# Altium footprint library MPPT_Charger.PcbLib: 34 footprints (part 1 of 3)
Each footprint in its own frame and in the unit in brackets; x right, y up, seen from the top. Pads: shape width x height; smd on the part's side, far side on the other; paste and mask are expansions set on the pad; w line width, h text height; cw(c..) or ccw(c..) is an arc to the next point about the centre after c.
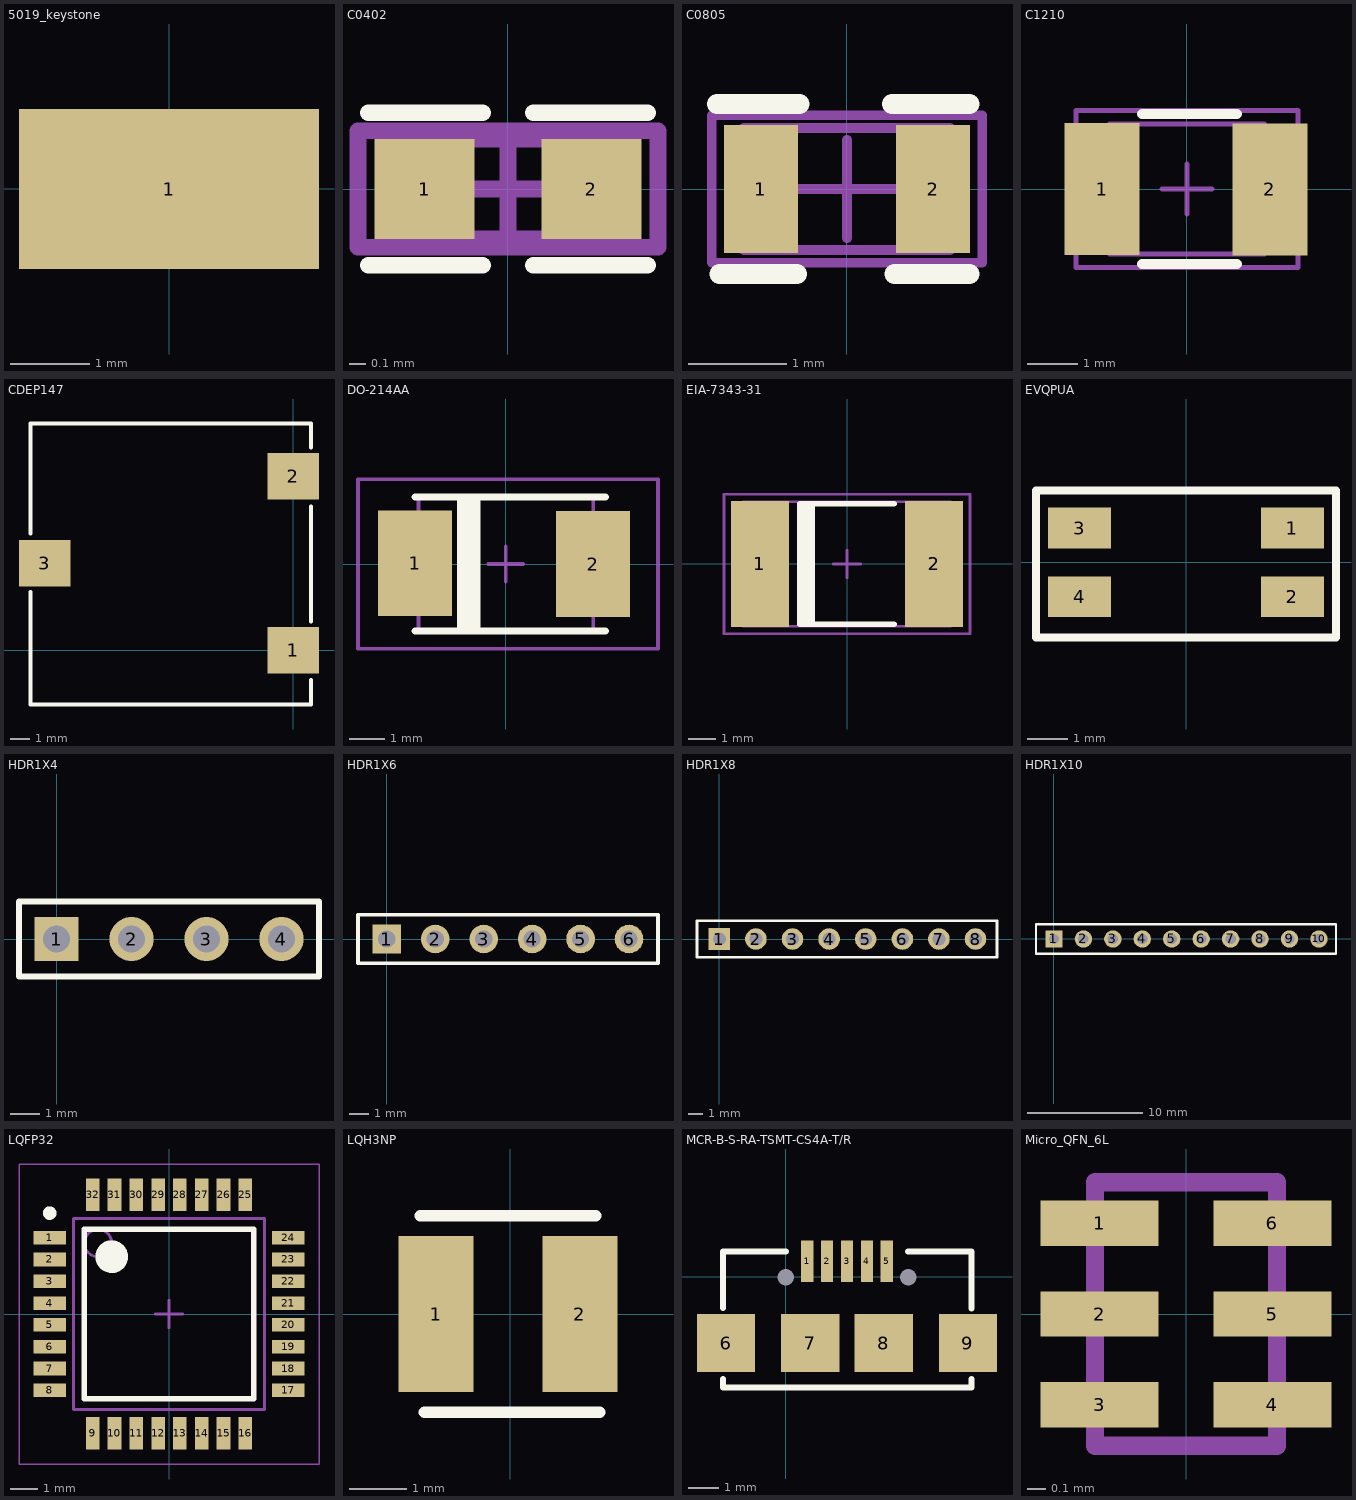
[diagram p0: the footprints below, top view; thin cyan lines are the x and y axes]

## 5019_keystone [mm] "Keystone Test Point 5019"
height 2.3
pads (1):
  rect 3.8x2.03 smd: 1(0,0)
3D body "User Library-User Library-Keystone_5019.step": height 2.29, standoff 0.01, extent -1.905,-1.015 1.905,1.015

## C0402 [mm] "Chip Capacitor, 2-Leads, Body 1,0x0,5mm, IPC High Density"
height 0.6
pads (2):
  rect 0.6x0.6 smd: 1(-0.5,0) 2(0.5,0)
Top Overlay:
  lines w0.1: -0.838,-0.457 -0.152,-0.457 ; -0.838,0.457 -0.152,0.457 ; 0.152,-0.457 0.838,-0.457 ; 0.152,0.457 0.838,0.457
Mechanical 13:
  lines w0.1: -0.55,-0.3 0.55,-0.3 0.55,0.3 -0.55,0.3 -0.55,-0.3
Mechanical 15:
  lines w0.1: -0.3,0 0.3,0 ; 0,-0.3 0,0.3 ; -0.9,-0.35 0.9,-0.35 0.9,0.35 -0.9,0.35 -0.9,-0.35
3D body "SW3dPS-0402 SMD Capacitor.STEP": height 0.2, standoff 0, extent -0.5,-0.3 0.5,0.3

## C0805 [mm] "Chip Capacitor, 2-Leads, Body 2,0x1,3mm, IPC High Density"
height 1
pads (2):
  rect 0.75x1.3 smd: 1(-0.875,0) 2(0.875,0)
Top Overlay:
  lines w0.2: -1.321,0.864 -0.483,0.864 ; -1.295,-0.864 -0.508,-0.864 ; 0.457,0.864 1.245,0.864 ; 0.483,-0.864 1.245,-0.864
Mechanical 13:
  lines w0.1: -1.05,-0.62 -1.05,0.62 1.05,0.62 1.05,-0.62 -1.05,-0.62
Mechanical 15:
  lines w0.1: -0.5,0 0.5,0 ; 0,-0.5 0,0.5 ; -1.375,-0.75 -1.375,0.75 1.375,0.75 1.375,-0.75 -1.375,-0.75
3D body "SW3dPS-0805 SMD Capacitor.STEP": height 0.78, standoff 0, extent -1.025,-0.691 0.975,0.559

## C1210 [mm] "Chip Capacitor, 2-Leads, Body 3.0x2.6mm, IPC Medium Density"
height 2.3
pads (2):
  rect 1.5x2.65 smd: 1(-1.7,0) 2(1.66,-0.01)
Top Overlay:
  lines w0.2: -0.9,-1.5 1,-1.5 ; -0.9,1.5 1,1.5
Mechanical 13:
  lines w0.1: -1.55,-1.3 1.55,-1.3 1.55,1.3 -1.55,1.3 -1.55,-1.3
Mechanical 15:
  lines w0.1: -0.5,0 0.5,0 ; 0,-0.5 0,0.5 ; -2.225,-1.575 2.225,-1.575 2.225,1.575 -2.225,1.575 -2.225,-1.575
3D body "C1210.STEP": height 2.5, standoff 0, extent -1.6,-1.25 1.6,1.25

## CDEP147 [mm]
height 8
pads (3):
  rect 2.65x2.4 smd: 1(0,0) 2(0,9) 3(-12.852,4.506)
Top Overlay:
  lines w0.2: -13.583,3.012 -13.583,-2.792 0.92,-2.792 0.92,-1.535 ; -13.583,6.033 -13.583,11.72 0.92,11.72 0.92,10.471 0.921,10.471 ; 0.918,7.435 0.921,7.435 0.921,1.477 ; 0.919,-1.535 0.92,-1.535
3D body "User Library-Sumida 147.step": height 8, standoff 0, extent -13.579,-2.784 0.921,11.716

## DO-214AA [mm]
pads (2):
  rect 2.1x3 smd: 1(-2.573,0.022) 2(2.475,0)
Top Overlay:
  rectangle: -1.38,-1.95 -0.71,1.9
  lines w0.2: -2.57,-1.9 2.83,-1.9 ; -2.57,1.9 2.83,1.9
Mechanical 13:
  lines w0.1: -2.475,-1.875 2.475,-1.875 2.475,1.875 -2.475,1.875 -2.475,-1.875
Mechanical 15:
  lines w0.1: -0.5,0 0.5,0 ; 0,-0.5 0,0.5 ; -4.191,-2.4 4.318,-2.4 4.318,2.4 -4.191,2.4 -4.191,-2.4
3D body "DO-214AA SMB.STEP": height 2.3, standoff 0, extent -2.66,-1.79 2.74,1.81

## EIA-7343-31 [mm] "Chip Capacitor, Case D, 2-Leads, Body 7,3x4,3mm, IPC Medium Density"
height 4.1
pads (2):
  rect 2.1x4.55 smd: 1(-3.15,0) 2(3.15,0)
Top Overlay:
  rectangle: -1.699,-2.175 -1.149,2.175
  lines w0.2: 1.7,-2.175 -1.7,-2.175 -1.7,2.175 1.7,2.175
Mechanical 13:
  lines w0.1: -3.75,-2.25 -3.75,2.25 3.75,2.25 3.75,-2.25 -3.75,-2.25
Mechanical 15:
  lines w0.1: -0.5,0 0.5,0 ; 0,-0.5 0,0.5 ; -4.45,-2.525 -4.45,2.525 4.45,2.525 4.45,-2.525 -4.45,-2.525
3D body "SW3dPS-tantulum cap 7343.STEP": height 2.3, standoff 0.07, extent -3.65,-2.159 3.65,2.141

## EVQPUA [mm] "Light Touch Switches/EVQPU"
height 1.65
pads (4):
  rect 1.55x1 smd: 1(2.625,0.85) 2(2.625,-0.85) 3(-2.625,0.85) 4(-2.625,-0.85)
Top Overlay:
  lines w0.2: -3.7,-1.855 3.7,-1.855 3.7,1.78 -3.7,1.78 -3.7,-1.855
3D body "EVQPU-JA-02K.STEP": height 1.65, standoff 0, extent -3.2,-2.76 3.2,1.78

## HDR1X4 [mm] "Connector; Header; 4 Position"
pads (4):
  rect 1.5x1.5 hole 0.9: 1(0,0)
  round 1.5 hole 0.9: 2(2.54,0) 3(5.08,0) 4(7.62,0)
Top Overlay:
  lines w0.2: -1.27,-1.27 -1.27,1.27 8.89,1.27 8.89,-1.27 -1.27,-1.27
3D body "SLW-104-01-G-S.stp": height 4.62, standoff -2.87, extent -1.3,-1.3 8.86,1.24

## HDR1X6 [mm] "Connector; Header; 6 Position"
pads (6):
  rect 1.5x1.5 hole 0.9: 1(0,0)
  round 1.5 hole 0.9: 2(2.54,0) 3(5.08,0) 4(7.62,0) 5(10.16,0) 6(12.7,0)
Top Overlay:
  lines w0.2: -1.51,-1.27 -1.51,1.27 14.22,1.27 14.22,-1.27 -1.51,-1.27
3D body "zl262-6s_p2-54_l15-7_w2-54_h8-5.stp": height 8.6, standoff -2.9, extent -1.515,-1.275 14.225,1.265

## HDR1X8 [mm] "Connector; Header; 8 Position"
pads (8):
  rect 1.5x1.5 hole 0.9: 1(0,0)
  round 1.5 hole 0.9: 2(2.54,0) 3(5.08,0) 4(7.62,0) 5(10.16,0) 6(12.7,0) 7(15.24,0) 8(17.78,0)
Top Overlay:
  lines w0.2: -1.55,-1.27 -1.55,1.27 19.27,1.27 19.27,-1.27 -1.55,-1.27
3D body "zl262-8s_p2-54_l20-8_w2-54_h8-5.stp": height 8.6, standoff -2.9, extent -1.55,-1.26 19.27,1.28

## HDR1X10 [mm] "Connector; Header; 10 Position"
pads (10):
  rect 1.5x1.5 hole 0.9: 1(0,0)
  round 1.5 hole 0.9: 2(2.54,0) 3(5.08,0) 4(7.62,0) 5(10.16,0) 6(12.7,0) 7(15.24,0) 8(17.78,0) 9(20.32,0) 10(22.86,0)
Top Overlay:
  lines w0.2: -1.55,-1.27 -1.55,1.27 0.635,1.27 24.33,1.27 24.33,-1.27 -1.55,-1.27
3D body "zl262-10s_p2-54_l25-9_w2-5_h8-5.stp": height 8.6, standoff -2.9, extent -1.57,-1.29 24.33,1.25

## LQFP32 [mm] "LQFP32, 32-Leads, Body 7,00x7,00mm, Pitch 0,80mm, IPC Medium Density"
height 1.6
pads (32):
  rect 1.2x0.5 smd: 1(-4.375,2.8) 2(-4.375,2) 3(-4.375,1.2) 4(-4.375,0.4) 5(-4.375,-0.4) 6(-4.375,-1.2) 7(-4.375,-2) 8(-4.375,-2.8) 17(4.375,-2.8) 18(4.375,-2) 19(4.375,-1.2) 20(4.375,-0.4) 21(4.375,0.4) 22(4.375,1.2) 23(4.375,2) 24(4.375,2.8)
  rect 0.5x1.2 smd: 9(-2.8,-4.375) 10(-2,-4.375) 11(-1.2,-4.375) 12(-0.4,-4.375) 13(0.4,-4.375) 14(1.2,-4.375) 15(2,-4.375) 16(2.8,-4.375) 25(2.8,4.375) 26(2,4.375) 27(1.2,4.375) 28(0.4,4.375) 29(-0.4,4.375) 30(-1.2,4.375) 31(-2,4.375) 32(-2.8,4.375)
Top Overlay:
  circle w0.6: c-2.1,2.1 r0.3
  circle w0.25: c-4.375,3.7 r0.125
  lines w0.2: -3.1,-3.1 3.1,-3.1 3.1,3.1 -3.1,3.1 -3.1,-3.1
Mechanical 13:
  circle w0.1: c-2.6,2.6 r0.5
  lines w0.1: -3.5,-3.5 3.5,-3.5 3.5,3.5 -3.5,3.5 -3.5,-3.5
Mechanical 15:
  lines w0.05: -5.5,-5.5 5.5,-5.5 5.5,5.5 -5.5,5.5 -5.5,-5.5
  lines w0.1: -0.5,0 0.5,0 ; 0,-0.5 0,0.5
3D body "User Library-LQFP32.STEP": height 1.63, standoff -0.09, extent -4.5,-4.5 4.5,4.5

## LQH3NP [mm] "Size Code 3030 (1212) in mm (in inch), 1.5mm max.Thickness. high performance type"
height 1.4
pads (2):
  rect 1.3x2.7 smd: 1(-1.28,0) 2(1.21,0)
Top Overlay:
  lines w0.2: -1.55,1.7 1.48,1.7 ; -1.48,-1.7 1.55,-1.7
3D body "User Library-Murata_LQH3NP_M0(1212).step": height 1.4, standoff -0.01, extent -1.54,-1.51 1.48,1.49

## MCR-B-S-RA-TSMT-CS4A-T/R [mm] "Micro USB Type-B Connector"
height 2.35
pads (11):
  rect 0.4x1.35 smd mask+0.05: 1(0.7,0.515) 2(1.35,0.515) 3(2,0.515) 4(2.65,0.515) 5(3.3,0.515)
  rect 1.9x1.9 smd mask+0.05: 6(-1.95,-2.16) 7(0.8,-2.16) 8(3.2,-2.16) 9(5.95,-2.16)
  round 0 hole 0.55 unplated: ""(0,-0.01) ""(4,-0.01)
Top Overlay:
  lines w0.2: -2.055,-3.34 -2.055,-3.615 6.065,-3.615 6.065,-3.34 ; -2.055,-1.01 -2.055,0.835 0,0.835 ; 4,0.835 6.065,0.835 6.065,-1.025
3D body "MCR-B-S-RA-TSMT-CS4A-TR.STEP": height 2.7, standoff -0.56, extent -2.071,-4.977 6.051,0.835

## Micro_QFN_6L [mm] "1.45x1.00"
height 0.55
pads (6):
  rect 0.65x0.25 smd: 1(-0.475,0.5) 2(-0.475,0) 3(-0.475,-0.5) 4(0.475,-0.5) 5(0.475,0) 6(0.475,0.5)
Mechanical 1:
  lines w0.1: -0.5,-0.725 0.5,-0.725 0.5,0.725 -0.5,0.725 -0.5,-0.725
3D body: height 0.55, standoff 0, extent -0.5,-0.725 0.5,0.725